# Altium schematic symbol library TesisLib.SchLib: 5 symbols
Pins are listed as number, name and electrical type; pins without a type are passive.

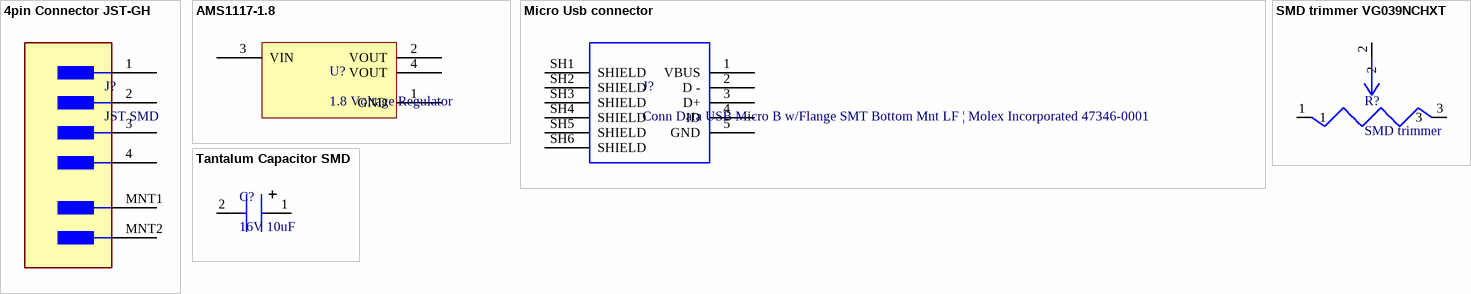
[diagram p0: symbols 4pin Connector JST-GH to Tantalum Capacitor SMD]

## 4pin Connector JST-GH
designator J?, comment JST SMD
CONN HEADER SMD R/A 4POS 1.25MM
footprint 4pin Connector JST-GH (CONN HEADER SMD R/A 4POS 1.25MM / JST)
pins: 1, 2, 3, 4, MNT1, MNT2

## AMS1117-1.8
designator U?, comment 1.8 Voltage Regulator
footprint AMS1117-1.8 (Voltage Regulator AMS1117 SMD)
pins: 1 GND, 2 VOUT, 3 VIN, 4 VOUT

## Micro Usb connector
designator J?, comment Conn Data USB Micro B w/Flange SMT Bottom Mnt LF | Molex Incorporated 47346-0001
Surface Mount
footprint Micro Usb B (Surface Mount)
pins: 1 VBUS, 2 D -, 3 D+, 4 ID, 5 GND, SH1 SHIELD, SH2 SHIELD, SH3 SHIELD, SH4 SHIELD, SH5 SHIELD, SH6 SHIELD

## SMD trimmer VG039NCHXT
designator R?, comment SMD trimmer
VG039NCHXT B503
footprint SMD trimmer VG039NCHXT (VG039NCHXT B503)
pins: 1, 2, 3

## Tantalum Capacitor SMD
designator C?, comment 16V 10uF
CASE-A-3216-18 / T491A106K016AT
footprint Tantalum Capacitor SMD (CASE-A-3216-18 / 10uF 16V)
pins: 1 +, 2 -